# EAGLE library part L01-35VA (library trafo-alfamag)
TOROID TRANSFORMER
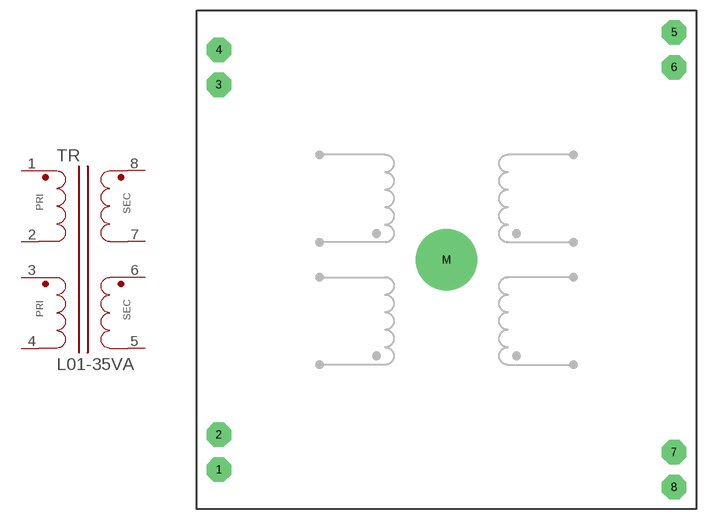
[diagram p0: symbol with the pads of L01-35VA; footprint L01-35VA]

Designator prefix TR

## L01-35VA  [L01-35VA]
1  1  pas
2  2  pas
3  3  pas
4  4  pas
5  5  pas
6  6  pas
7  7  pas
8  8  pas

## Footprint L01-35VA (pad centres in mm)
TOROID TRANSFORMER L x W x H = 72.0 x 72.0 x 37.5 mm X x Y = 66.04 x 66.04 mm
drill 1.422 pad 3.556 octagon: 1 -33,-30.46; 2 -33,-25.4; 3 -33,25.4; 4 -33,30.46; 5 33,33; 6 33,27.94; 7 33,-27.94; 8 33,-33
drill 4.699 pad 8.89: M 0,0